# Altium footprint library Leadless Chip Carrier - Square.PcbLib: 18 footprints (part 2 of 2)
Each footprint in its own frame and in the unit in brackets; x right, y up, seen from the top. Pads: shape width x height; smd on the part's side, far side on the other; paste and mask are expansions set on the pad; w line width, h text height; cw(c..) or ccw(c..) is an arc to the next point about the centre after c.
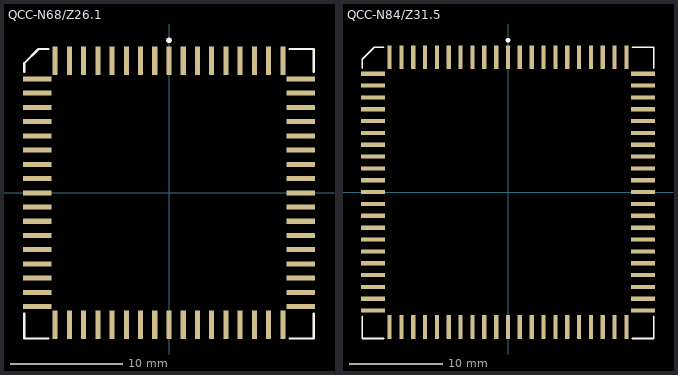
[diagram p1: the footprints below, top view; thin cyan lines are the x and y axes]

## QCC-N68/Z26.1 [mm] "Leadless Chip Carrier; 68 Terminals; Body 24.1 x 24.1 mm"
height 2.03
pads (68):
  rect 0.45x2.55 smd: 1(0,11.775) 2(-1.27,11.775) 3(-2.54,11.775) 4(-3.81,11.775) 5(-5.08,11.775) 6(-6.35,11.775) 7(-7.62,11.775) 8(-8.89,11.775) 9(-10.16,11.775) 27(-10.16,-11.775) 28(-8.89,-11.775) 29(-7.62,-11.775) 30(-6.35,-11.775) 31(-5.08,-11.775) 32(-3.81,-11.775) 33(-2.54,-11.775) 34(-1.27,-11.775) 35(0,-11.775) 36(1.27,-11.775) 37(2.54,-11.775) 38(3.81,-11.775) 39(5.08,-11.775) 40(6.35,-11.775) 41(7.62,-11.775) 42(8.89,-11.775) 43(10.16,-11.775) 61(10.16,11.775) 62(8.89,11.775) 63(7.62,11.775) 64(6.35,11.775) 65(5.08,11.775) 66(3.81,11.775) 67(2.54,11.775) 68(1.27,11.775)
  rect 2.55x0.45 smd: 10(-11.775,10.16) 11(-11.775,8.89) 12(-11.775,7.62) 13(-11.775,6.35) 14(-11.775,5.08) 15(-11.775,3.81) 16(-11.775,2.54) 17(-11.775,1.27) 18(-11.775,0) 19(-11.775,-1.27) 20(-11.775,-2.54) 21(-11.775,-3.81) 22(-11.775,-5.08) 23(-11.775,-6.35) 24(-11.775,-7.62) 25(-11.775,-8.89) 26(-11.775,-10.16) 44(11.775,-10.16) 45(11.775,-8.89) 46(11.775,-7.62) 47(11.775,-6.35) 48(11.775,-5.08) 49(11.775,-3.81) 50(11.775,-2.54) 51(11.775,-1.27) 52(11.775,0) 53(11.775,1.27) 54(11.775,2.54) 55(11.775,3.81) 56(11.775,5.08) 57(11.775,6.35) 58(11.775,7.62) 59(11.775,8.89) 60(11.775,10.16)
Top Overlay:
  circle w0.25: c0,13.6 r0.125
  lines w0.2: -12.925,-10.785 -12.925,-13.012 -10.785,-13.012 ; -12.925,10.785 -12.925,11.562 -11.65,12.838 -10.785,12.838 ; 10.785,-13.012 12.925,-13.012 12.925,-10.785 ; 10.785,12.838 12.925,12.838 12.925,10.785

## QCC-N84/Z31.5 [mm] "Leadless Chip Carrier; 84 Terminals; Body 29.3 x 29.3 mm"
height 2.03
pads (84):
  rect 0.45x2.55 smd: 1(0,14.475) 2(-1.27,14.475) 3(-2.54,14.475) 4(-3.81,14.475) 5(-5.08,14.475) 6(-6.35,14.475) 7(-7.62,14.475) 8(-8.89,14.475) 9(-10.16,14.475) 10(-11.43,14.475) 11(-12.7,14.475) 33(-12.7,-14.475) 34(-11.43,-14.475) 35(-10.16,-14.475) 36(-8.89,-14.475) 37(-7.62,-14.475) 38(-6.35,-14.475) 39(-5.08,-14.475) 40(-3.81,-14.475) 41(-2.54,-14.475) 42(-1.27,-14.475) 43(0,-14.475) 44(1.27,-14.475) 45(2.54,-14.475) 46(3.81,-14.475) 47(5.08,-14.475) 48(6.35,-14.475) 49(7.62,-14.475) 50(8.89,-14.475) 51(10.16,-14.475) 52(11.43,-14.475) 53(12.7,-14.475) 75(12.7,14.475) 76(11.43,14.475) 77(10.16,14.475) 78(8.89,14.475) 79(7.62,14.475) 80(6.35,14.475) 81(5.08,14.475) 82(3.81,14.475) 83(2.54,14.475) 84(1.27,14.475)
  rect 2.55x0.45 smd: 12(-14.475,12.7) 13(-14.475,11.43) 14(-14.475,10.16) 15(-14.475,8.89) 16(-14.475,7.62) 17(-14.475,6.35) 18(-14.475,5.08) 19(-14.475,3.81) 20(-14.475,2.54) 21(-14.475,1.27) 22(-14.475,0) 23(-14.475,-1.27) 24(-14.475,-2.54) 25(-14.475,-3.81) 26(-14.475,-5.08) 27(-14.475,-6.35) 28(-14.475,-7.62) 29(-14.475,-8.89) 30(-14.475,-10.16) 31(-14.475,-11.43) 32(-14.475,-12.7) 54(14.475,-12.7) 55(14.475,-11.43) 56(14.475,-10.16) 57(14.475,-8.89) 58(14.475,-7.62) 59(14.475,-6.35) 60(14.475,-5.08) 61(14.475,-3.81) 62(14.475,-2.54) 63(14.475,-1.27) 64(14.475,0) 65(14.475,1.27) 66(14.475,2.54) 67(14.475,3.81) 68(14.475,5.08) 69(14.475,6.35) 70(14.475,7.62) 71(14.475,8.89) 72(14.475,10.16) 73(14.475,11.43) 74(14.475,12.7)
Top Overlay:
  circle w0.25: c0,16.3 r0.125
  lines w0.2: -15.625,-13.325 -15.625,-15.713 -13.325,-15.713 ; -15.625,13.325 -15.625,14.262 -14.35,15.538 -13.325,15.538 ; 13.325,-15.713 15.625,-15.713 15.625,-13.325 ; 13.325,15.538 15.625,15.538 15.625,13.325